# Altium footprint library Switch DPDT.PcbLib: 1 footprints
Each footprint in its own frame and in the unit in brackets; x right, y up, seen from the top. Pads: shape width x height; smd on the part's side, far side on the other; paste and mask are expansions set on the pad; w line width, h text height; cw(c..) or ccw(c..) is an arc to the next point about the centre after c.
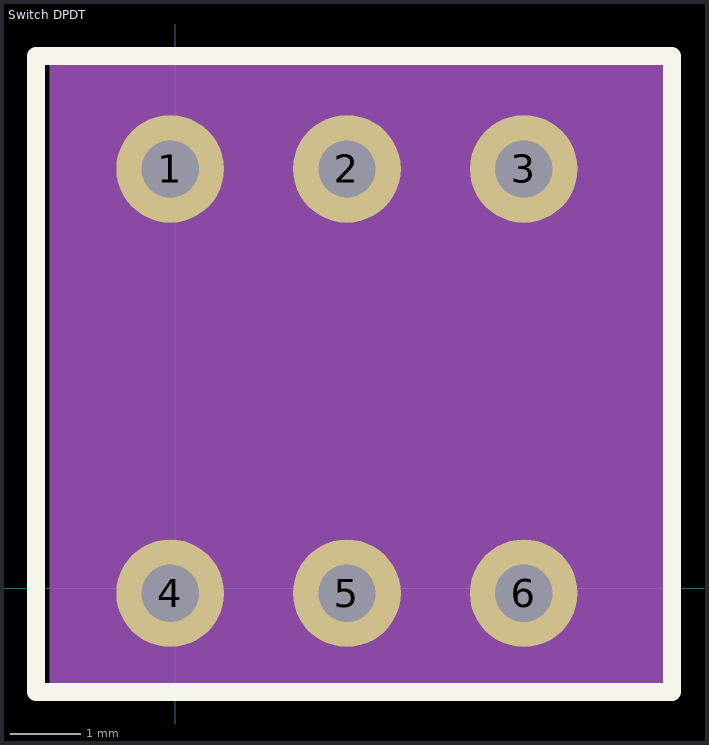
[diagram p0: the footprint, top view; thin cyan lines are the x and y axes]

## Switch DPDT [mil]
pads (6):
  oval 60x59.96 hole 31.89 square: 1(-2.87,233.35)
  oval 60x59.96 hole 31.89: 2(95.55,233.35) 3(193.98,233.35) 4(-2.87,-2.87) 5(95.55,-2.87) 6(193.98,-2.87)
Top Overlay:
  lines w10: -77.68,-57.99 -77.68,296.34 276.65,296.34 276.65,-57.99 -77.68,-57.99
Mechanical 1:
  rectangle: -70,-55 275,295